# Altium footprint library PcbLib3.PcbLib: 20 footprints (part 2 of 2)
Each footprint in its own frame and in the unit in brackets; x right, y up, seen from the top. Pads: shape width x height; smd on the part's side, far side on the other; paste and mask are expansions set on the pad; w line width, h text height; cw(c..) or ccw(c..) is an arc to the next point about the centre after c.
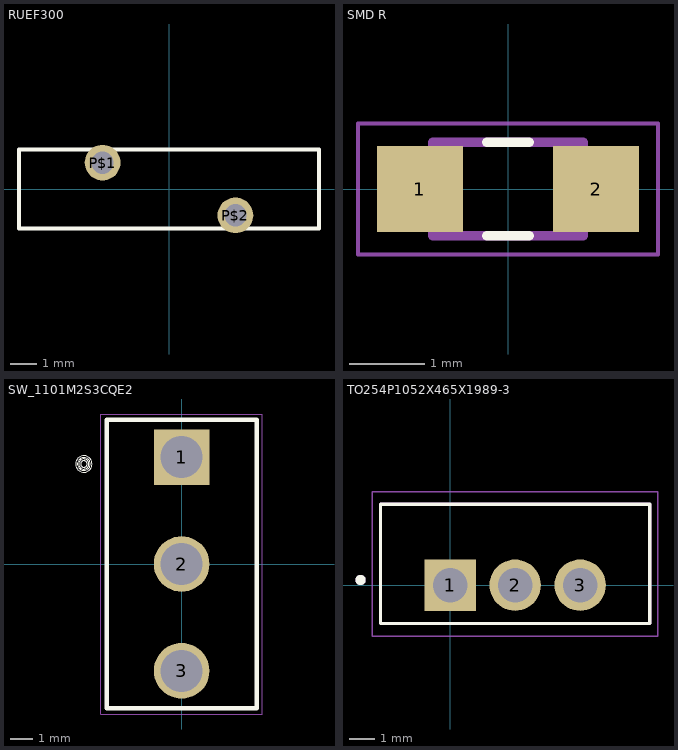
[diagram p1: the footprints below, top view; thin cyan lines are the x and y axes]

## RUEF300 [mm]
pads (2):
  round 1.358 hole 0.85: P$1(-2.525,1) P$2(2.525,-1)
Top Overlay:
  lines w0.152: -5.7,-1.5 5.7,-1.5 5.7,1.5 -5.7,1.5 -5.7,-1.5
3D body "step_temp.STEP": height 16.5, standoff -7.6, extent -5.7,-1.5 5.7,1.5

## SMD R [mm]
pads (2):
  rect 1.15x1.15 smd: 1(-1.175,0) 2(1.175,0)
Top Overlay:
  lines w0.127: -0.28,-0.625 0.28,-0.625 ; -0.28,0.625 0.28,0.625
Mechanical 13:
  lines w0.127: -1,-0.625 1,-0.625 1,0.625 -1,0.625 -1,-0.625
Mechanical 15:
  lines w0.05: -2,-0.875 2,-0.875 2,0.875 -2,0.875 -2,-0.875
3D body "ERJ-U06F91R0V.STEP": height 0.6, standoff 0, extent -1,-0.625 1,0.625

## SW_1101M2S3CQE2 [mm]
pads (3):
  rect 2.45x2.45 / inner round 2.45 / far side rect 2.45x2.45 hole 1.85: 1(0,4.7)
  round 2.45 hole 1.85: 2(0,0) 3(0,-4.7)
Top Overlay:
  circle w0.05: c-4.3,4.4 r0.224
  circle w0.05: c-4.3,4.4 r0.224
  circle w0.05: c-4.3,4.4 r0.141
  circle w0.05: c-4.3,4.4 r0.224
  circle w0.05: c-4.3,4.4 r0.283
  circle w0.05: c-4.3,4.4 r0.361
  lines w0.2: -3.3,-6.35 -3.3,6.35 3.3,6.35 3.3,-6.35 -3.3,-6.35
Mechanical 15:
  lines w0.05: -3.55,-6.6 -3.55,6.6 3.55,6.6 3.55,-6.6 -3.55,-6.6
3D body "step_temp.STEP": height 13.33, standoff -4.44, extent -3.302,-6.35 3.302,6.35

## TO254P1052X465X1989-3 [mm]
pads (3):
  rect 2.01x2.01 / inner round 2.01 / far side rect 2.01x2.01 hole 1.34: 1(0,0)
  round 2.01 hole 1.34: 2(2.54,0) 3(5.08,0)
Top Overlay:
  circle w0.2: c-3.5,0.2 r0.1
  lines w0.127: -2.72,-1.5 7.8,-1.5 7.8,3.16 -2.72,3.16 -2.72,-1.5
Mechanical 13:
  circle w0.2: c-3.5,0.2 r0.1
  lines w0.127: -2.72,-1.5 7.8,-1.5 7.8,3.16 -2.72,3.16 -2.72,-1.5
Mechanical 15:
  lines w0.05: -3.04,-2.005 8.12,-2.005 8.12,3.655 -3.04,3.655 -3.04,-2.005
3D body "step_temp.STEP": height 19.89, standoff -10.36, extent -2.578,-1.537 7.658,2.908